# EAGLE library part MIC-MSM261D3526H1CPM (library Making)
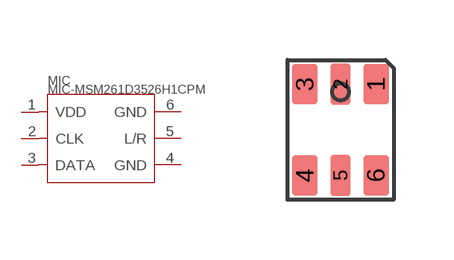
[diagram p0: symbol with the pads of MIC6P-3.5X2.65X0.94MM; footprint MIC6P-3.5X2.65X0.94MM]

Designator prefix MIC

## MIC-MSM261D3526H1CPM  [MIC6P-3.5X2.65X0.94MM]
1  VDD
2  CLK
3  DATA
4  GND
5  L/R
6  GND

## Footprint MIC6P-3.5X2.65X0.94MM (pad centres in mm)
smd 0.635 x 1.016: 1 0.889,1.143; 3 -0.889,1.143; 4 -0.889,-1.143; 6 0.889,-1.143
smd 0.508 x 1.016: 2 0,1.143; 5 0,-1.143